# Altium integrated library Manu3.IntLib: 36 symbols
Pins are listed as number, name and electrical type; pins without a type are passive.

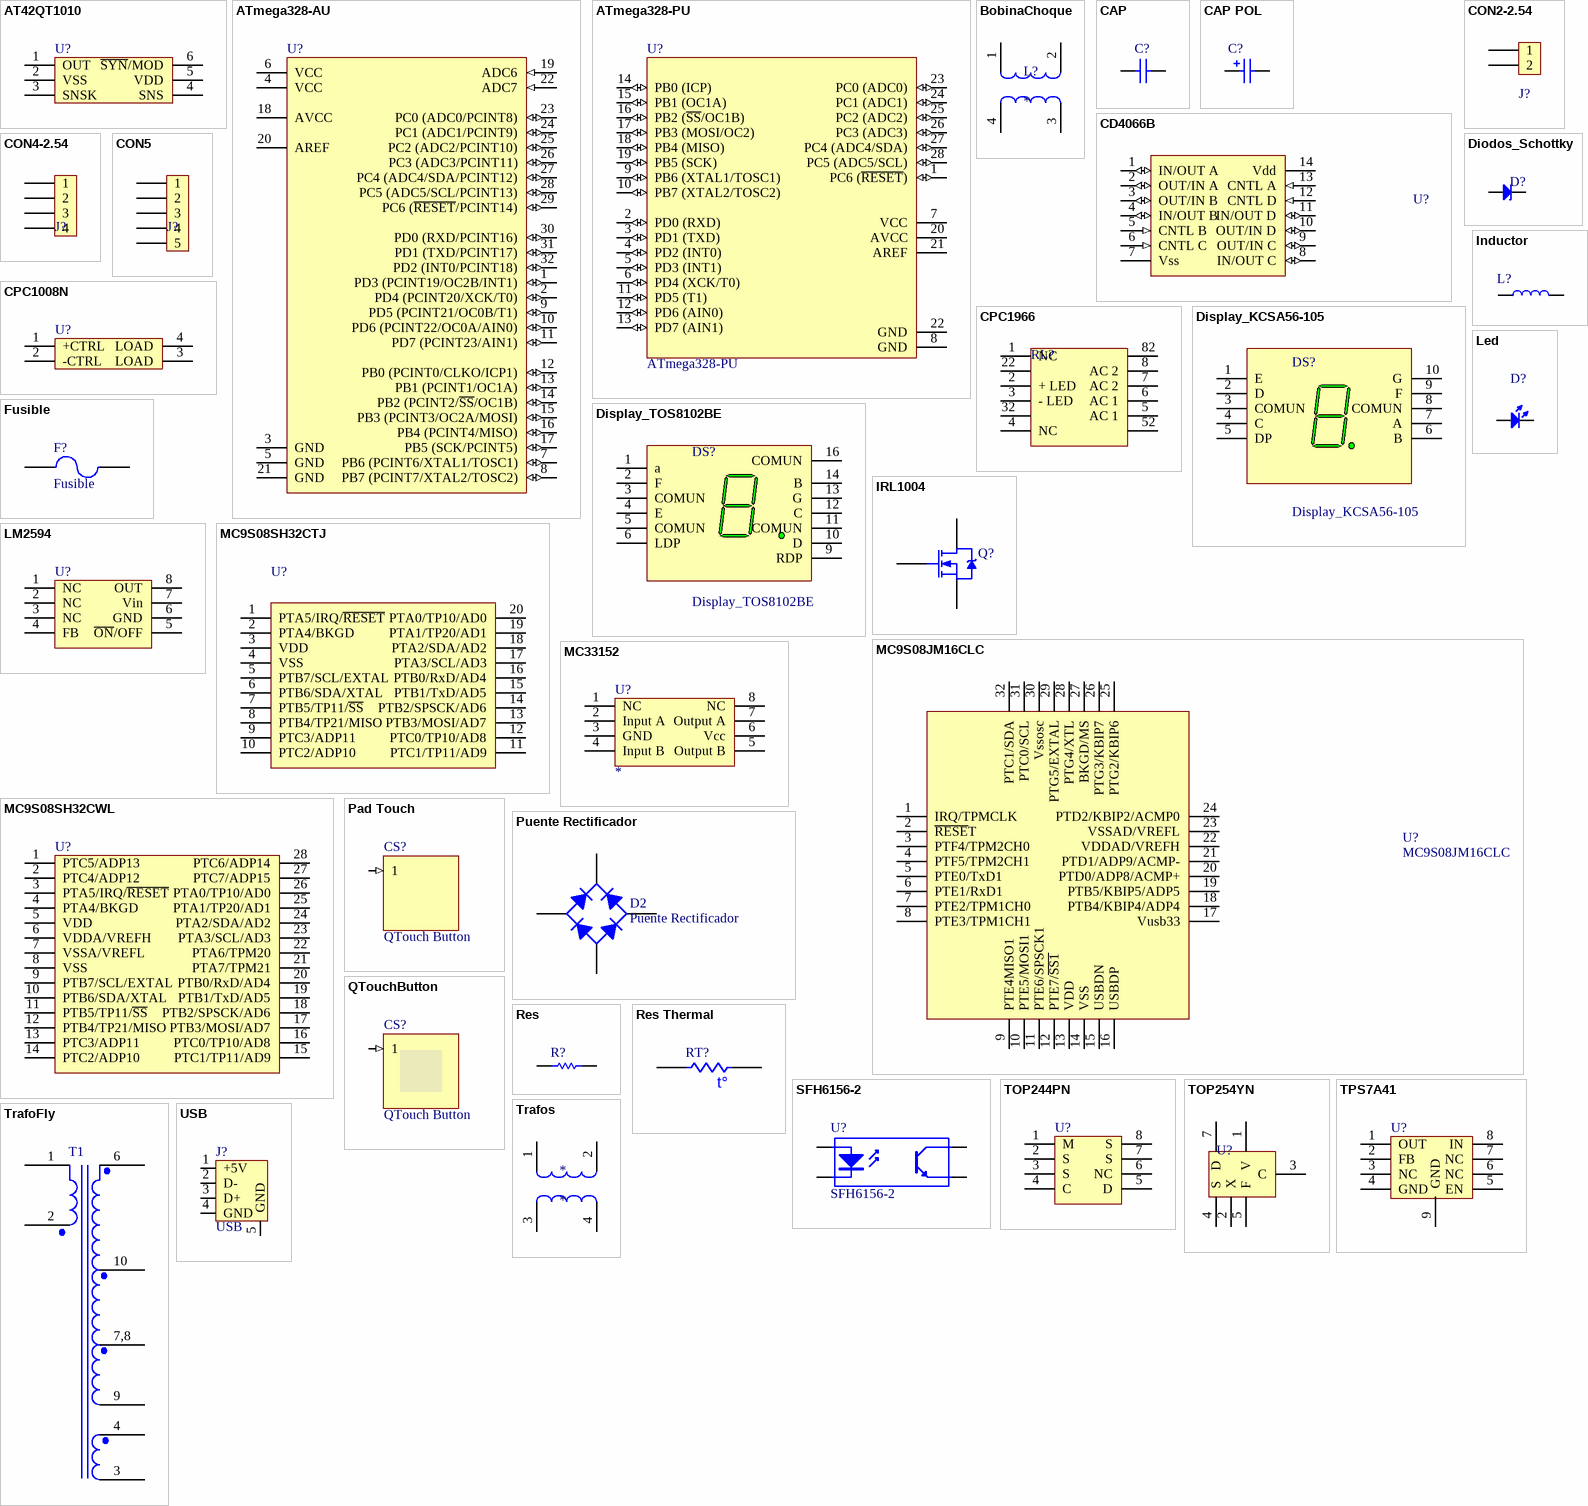
[diagram p0: symbols AT42QT1010 to USB]

## AT42QT1010
designator U?, comment AT42QT1010-TSHR  (value not drawn)
Single-key QTouch® Touch Sensor IC
footprint SOT23-6 (SOT23, 6-Leads)
pins: 1 OUT, 2 VSS, 3 SNSK, 4 SNS, 5 VDD, 6 ~{SYN}/MOD (power)
1 alternate drawing of the same symbol

## ATmega328-AU
designator U?
8-bit AVR Microcontroller, 32KB Flash, 1KB EEPROM, 2KB SRAM, 32-pin TQFP, Industrial Grade (-40°C to 85°C); Published: 1-Apr-2010; DatasheetVersion: revA, Jan-2010; PackageVersion: revB, Oct-2001; PackageReference: 32A; Publisher: Altium Limited; PackageDescription: 32-Lead, 7x7x1.0 mm Body, 0.8mm Lead Pitch, Thin Profile Plastic Quad Flat Package (TQFP); Supplier 1: Digi-Key; Supplier Part Number 1: ATMEGA328-AU-ND; Supplier 2: Mouser; Supplier Part Number 2: 556-ATMEGA328-AU; Code_JEDEC: MS-026-ABA; ComponentLink1Description: Manufacturer Link; ComponentLink1URL: http://www.atmel.com/products/avr/default.asp?; ComponentLink2Description: ATmega48A/48PA/88A/88PA/168A/168PA/328/328P Datasheet; ComponentLink2URL: http://www.atmel.com/dyn/resources/prod_documents/8271.pdf; ComponentLink3Description: ATmega48A/48PA/88A/88PA/168A/168PA/328/328P Summary; ComponentLink3URL: http://www.atmel.com/dyn/resources/prod_documents/8271S.pdf; ComponentLink4Description: Atmel.com Home; ComponentLink4URL: http://www.atmel.com
footprint TQFP32 (Thin QFP, 32-Leads, Body 7x7mm, Pitch 0.8mm, IPC Medium Density)
pins: 1 PD3 (PCINT19/OC2B/INT1) (io), 2 PD4 (PCINT20/XCK/T0) (io), 3 GND (power), 4 VCC (power), 5 GND (power), 6 VCC (power), 7 PB6 (PCINT6/XTAL1/TOSC1) (io), 8 PB7 (PCINT7/XTAL2/TOSC2) (io), 9 PD5 (PCINT21/OC0B/T1) (io), 10 PD6 (PCINT22/OC0A/AIN0) (io), 11 PD7 (PCINT23/AIN1) (io), 12 PB0 (PCINT0/CLKO/ICP1) (io), 13 PB1 (PCINT1/OC1A) (io), 14 PB2 (PCINT2/~{SS}/OC1B) (io), 15 PB3 (PCINT3/OC2A/MOSI) (io), 16 PB4 (PCINT4/MISO) (io), 17 PB5 (SCK/PCINT5) (io), 18 AVCC (power), 19 ADC6 (in), 20 AREF, 21 GND (power), 22 ADC7 (in), 23 PC0 (ADC0/PCINT8) (io), 24 PC1 (ADC1/PCINT9) (io), 25 PC2 (ADC2/PCINT10) (io), 26 PC3 (ADC3/PCINT11) (io), 27 PC4 (ADC4/SDA/PCINT12) (io), 28 PC5 (ADC5/SCL/PCINT13) (io), 29 PC6 (~{RESET}/PCINT14) (io), 30 PD0 (RXD/PCINT16) (io), 31 PD1 (TXD/PCINT17) (io), 32 PD2 (INT0/PCINT18) (io)

## ATmega328-PU
designator U?
8-Bit AVR Microcontroller with 8K Bytes of In-System Programmable Flash Memory
footprint DIP28 (DIP; 28 Leads; Row Spacing 7.62 mm; Pitch 2.54 mm)
pins: 1 PC6 (~{RESET}) (io), 2 PD0 (RXD) (io), 3 PD1 (TXD) (io), 4 PD2 (INT0) (io), 5 PD3 (INT1) (io), 6 PD4 (XCK/T0) (io), 7 VCC (power), 8 GND (power), 9 PB6 (XTAL1/TOSC1) (io), 10 PB7 (XTAL2/TOSC2) (io), 11 PD5 (T1) (io), 12 PD6 (AIN0) (io), 13 PD7 (AIN1) (io), 14 PB0 (ICP) (io), 15 PB1 (OC1A) (io), 16 PB2 (~{SS}/OC1B) (io), 17 PB3 (MOSI/OC2) (io), 18 PB4 (MISO) (io), 19 PB5 (SCK) (io), 20 AVCC (power), 21 AREF, 22 GND (power), 23 PC0 (ADC0) (io), 24 PC1 (ADC1) (io), 25 PC2 (ADC2) (io), 26 PC3 (ADC3) (io), 27 PC4 (ADC4/SDA) (io), 28 PC5 (ADC5/SCL) (io)

## BobinaChoque
designator L?
Transformadores de 4 patillas
footprint PLA10_Series (AC Line Filters Common Mode Choke Coil)
pins: 1, 2, 3, 4

## CAP
designator C?  (value not drawn)
Capacitor
footprint 1206 (Tamaño 1206)
footprint 0805 (Tamaño 0805 para pasar por el horno)
footprint 0603 (Tamaño 0603 para pasar por el horno)
footprint RADIAL-10P_5mm (2 Leads)
footprint AXIAL-P_5mm (Paso 5mm)
footprint AXIAL-P_5.08mm (Paso 5.08mm)
footprint AXIAL-P_2.54mm (Paso 2.54mm)
footprint AXIAL-P_10mm (Paso 10mm)
footprint AXIAL-P_10mm (Paso 10mm)
footprint P_15mm (Condensador Poliester; 2 Leads)
footprint Cap0603 (Tamaño 0603 para pasar por el horno)
footprint CAP 0805 (Tamaño 0805)
pins: 1, 2

## CAP POL
designator C?  (value not drawn)
Polarized Capacitor (Radial)
footprint Cap SMD 6.3 (Condensador smd D=6.3)
footprint CAP10mm (10mmdiametro)
pins: 1, 2
1 alternate drawing of the same symbol

## CD4066B
designator U?  (value not drawn)
Quad Analog Switch
footprint TSSOP14 (SOIC, 14-Leads, Body 9x7.5mm, Pitch 1.27mm, IPC Medium Density)
pins: 1 IN/OUT A (io), 2 OUT/IN A (io), 3 OUT/IN B (io), 4 IN/OUT B (io), 5 CNTL B (in), 6 CNTL C (in), 7 Vss (power), 8 IN/OUT C (io), 9 OUT/IN C (io), 10 OUT/IN D (io), 11 IN/OUT D (io), 12 CNTL D (in), 13 CNTL A (in), 14 Vdd (power)
1 alternate drawing of the same symbol

## CON2-2.54
designator J?  (value not drawn)
Conector 2 vias con aleta
footprint CON2-2.54 Receptaculo (Conector Cable placa p= 2.54mm C.F: (2vias))
footprint CON2-2.75 (Conector Placa)
pins: 1, 2

## CON4-2.54
designator J?  (value not drawn)
Conector 2 vias con aleta
footprint CON4-2.54 Receptaculo (Conector Cable placa p= 2.54mm C.F: (4vias))
pins: 1, 2, 3, 4

## CON5
designator J?  (value not drawn)
Conector 5 vias tornillo
footprint CON5-3.81 (Conector Tornillo p= 3.81mm C.F: (5vias))
footprint CON5-2.54 (Conector Tornillo p= 2.54mm C.F: (5vias))
pins: 1, 2, 3, 4, 5

## CPC1008N
designator U?  (value not drawn)
Single-Pole, Normally Open  4-Pin SOP OptoMOS® Relay
footprint 4-Pin SOP
pins: 1 +CTRL, 2 -CTRL, 3 LOAD, 4 LOAD
1 alternate drawing of the same symbol

## CPC1966
designator RL?  (value not drawn)
Rele estado solido AC Power Switch
footprint SOIC8 POWER
footprint SOIC8 POWER+SIP4 (CPC1966)
pins: 1 NC, 2 + LED, 3 - LED, 4 NC, 5 AC 1, 6 AC 1, 7 AC 2, 8 AC 2 (power), 22 + LED, 32 - LED, 52 AC 1, 82 AC 2
1 alternate drawing of the same symbol

## Diodos_Schottky
designator D?  (value not drawn)
Diodos schottky
footprint SOD123
footprint TO-220AC (TO, Thru-Hole, Vertical, Heatsink Mounted;2 In-Line Leads; Pitch 2.54 mm)
footprint DOP3I
pins: 1 A, 2 K

## Display_KCSA56-105
designator DS?
7.62 mm Black Surface Green 7-Segment Display: CA, RH DP; MinimumIntensity: 860 ucd; Note: IF = 10 mA; Note: Pins 1 and 6 are redundant Anodes.; Published: 8-Jun-2000; LatestRevisionDate: 17-Dec-2003; LatestRevisionNote: Schematic revised, PCB Footprint replaced.; DatasheetDocument: 19-Feb-2002; PackageDocument: 19-Feb-2002; PackageReference: LEDDIP-10; Publisher: Altium Limited; Colour: Green; ComponentLink1Description: Manufacturer Link; ComponentLink1URL: http://www.agilent.com/
footprint Display_KCSA56-105 (Pinout Display KCSA56-105)
pins: 1 E "Cathode", 2 D "Cathode", 3 COMUN "Cathode", 4 C "Cathode", 5 DP "Cathode", 6 B "Anode", 7 A "Anode", 8 COMUN "Cathode", 9 F "Cathode", 10 G "Cathode"

## Display_TOS8102BE
designator DS?
7.62 mm Black Surface Green 7-Segment Display: CA, RH DP; MinimumIntensity: 860 ucd; Note: IF = 10 mA; Note: Pins 1 and 6 are redundant Anodes.; Published: 8-Jun-2000; LatestRevisionDate: 17-Dec-2003; LatestRevisionNote: Schematic revised, PCB Footprint replaced.; DatasheetDocument: 19-Feb-2002; PackageDocument: 19-Feb-2002; PackageReference: LEDDIP-10; Publisher: Altium Limited; Colour: Green; ComponentLink1Description: Manufacturer Link; ComponentLink1URL: http://www.agilent.com/
pins: 1 a "Cathode", 2 F "Cathode", 3 COMUN "Cathode", 4 E "Cathode", 5 COMUN "Cathode", 6 LDP "Cathode", 9 RDP "Anode", 10 D "Anode", 11 COMUN "Cathode", 12 C "Cathode", 13 G "Cathode", 14 B "Cathode", 16 COMUN "Cathode"

## Fusible
designator F?
footprint PTC Reseteable 11.5x20.9x3.8 (PTC Reseteable CF:2213624)
footprint PTC Reseteable 8.3x2x3.8 p_5.8 (PTC Reseteable LVR005NK)
pins: 1, 2

## Inductor
designator L?  (value not drawn)
Inductores varios
footprint SDR0503 Series (Bobina 5mm x 4.8mm x 3mm)
footprint Ind_R_8.5mm (P_5mm)
footprint RES0603 (Tamaño 0603 para pasar por el horno)
pins: 1, 2

## IRL1004
designator Q?
HEXFET Power MOSFET; Note: Pin 2 is electrically connected to Tab (Drain).; Published: 17-Sep-2003; DatasheetVersion: 29-Nov-1999; PackageVersion: Feb-1997; PackageReference: TO-220AB; Publisher: Altium Limited; PackageDescription: TO, Thru-Hole, Vertical, Heatsink Mounted; 3 In-Line Leads; Pitch 2.54 mm; ComponentLink1Description: Manufacturer Link; ComponentLink1URL: http://www.irf.com/; ComponentLink2Description: Datasheet; ComponentLink2URL: http://www.irf.com/product-info/datasheets/data/irl1004.pdf
footprint TO-220AB (TO, Thru-Hole, Vertical, Heatsink Mounted; 3 In-Line Leads; Pitch 2.54 mm)
simulation model IRL1004 (SUBCKT)
footprint TO-220AB Tumbado (TO, Thru-Hole, Vertical, Heatsink Mounted; 3 In-Line Leads; Pitch 2.54 mm)
pins: 1 G, 2 D, 3 S

## Led
designator D?  (value not drawn)
Tipico Led
footprint LED3MM (Led Convencional 3mm)
pins: 1 A, 2 K

## LM2594
designator U?, comment LM2594DADJR2G  (value not drawn)
0.5 A, Step-Down Switching  Regulator
footprint SOIC8 NB (SOIC, 8-Leads, Body 4.9x3.9mm, Pitch 1.27mm, IPC Medium Density)
pins: 1 NC, 2 NC, 3 NC, 4 FB (power), 5 ~{ON}/OFF, 6 GND, 7 Vin, 8 OUT (power)
1 alternate drawing of the same symbol

## MC9S08JM16CLC
designator U?
8-Bit Microcontroller
footprint LQFP-32 (Thin QFP, 32-Leads, Body 7x7mm, Pitch 0.8mm, IPC Medium Density)
pins: 1 IRQ/TPMCLK, 2 ~{RESE}T, 3 PTF4/TPM2CH0, 4 PTF5/TPM2CH1, 5 PTE0/TxD1, 6 PTE1/RxD1, 7 PTE2/TPM1CH0, 8 PTE3/TPM1CH1, 9 PTE4MISO1, 10 PTE5/MOSI1, 11 PTE6/SPSCK1, 12 PTE7/~{SS1}, 13 VDD, 14 VSS, 15 USBDN, 16 USBDP, 17 Vusb33, 18 PTB4/KBIP4/ADP4, 19 PTB5/KBIP5/ADP5, 20 PTD0/ADP8/ACMP+, 21 PTD1/ADP9/ACMP-, 22 VDDAD/VREFH, 23 VSSAD/VREFL, 24 PTD2/KBIP2/ACMP0, 25 PTG2/KBIP6, 26 PTG3/KBIP7, 27 BKGD/MS, 28 PTG4/XTL, 29 PTG5/EXTAL, 30 Vssosc, 31 PTC0/SCL, 32 PTC1/SDA

## MC9S08SH32CTJ
designator U?  (value not drawn)
Microprocesador
footprint SOIC20 (SOIC, 20-Leads, Body 12.8x7.5mm, Pitch 1.27mm, IPC Low Density)
pins: 1 PTA5/IRQ/~{RESET} (power), 2 PTA4/BKGD (power), 3 VDD, 4 VSS (power), 5 PTB7/SCL/EXTAL, 6 PTB6/SDA/XTAL, 7 PTB5/TP11/~{SS}, 8 PTB4/TP21/MISO (power), 9 PTC3/ADP11, 10 PTC2/ADP10, 11 PTC1/TP11/AD9, 12 PTC0/TP10/AD8, 13 PTB3/MOSI/AD7, 14 PTB2/SPSCK/AD6, 15 PTB1/TxD/AD5, 16 PTB0/RxD/AD4, 17 PTA3/SCL/AD3, 18 PTA2/SDA/AD2, 19 PTA1/TP20/AD1, 20 PTA0/TP10/AD0
1 alternate drawing of the same symbol

## MC9S08SH32CWL
designator U?  (value not drawn)
Microprocesador
footprint SOIC28 (SOIC, 28-Leads, Body 17.9x7.5mm, Pitch 1.27mm, IPC High Density)
pins: 1 PTC5/ADP13, 2 PTC4/ADP12, 3 PTA5/IRQ/~{RESET} (power), 4 PTA4/BKGD (power), 5 VDD, 6 VDDA/VREFH, 7 VSSA/VREFL, 8 VSS (power), 9 PTB7/SCL/EXTAL, 10 PTB6/SDA/XTAL, 11 PTB5/TP11/~{SS}, 12 PTB4/TP21/MISO (power), 13 PTC3/ADP11, 14 PTC2/ADP10, 15 PTC1/TP11/AD9, 16 PTC0/TP10/AD8, 17 PTB3/MOSI/AD7, 18 PTB2/SPSCK/AD6, 19 PTB1/TxD/AD5, 20 PTB0/RxD/AD4, 21 PTA7/TPM21, 22 PTA6/TPM20, 23 PTA3/SCL/AD3, 24 PTA2/SDA/AD2, 25 PTA1/TP20/AD1, 26 PTA0/TP10/AD0, 27 PTC7/ADP15, 28 PTC6/ADP14
1 alternate drawing of the same symbol

## MC33152
designator U?
High Speed Dual  MOSFET Drivers
footprint SOIC8 (SOIC, 8-Leads, Body 4.9x3.9mm, Pitch 1.27mm, IPC Medium Density)
pins: 1 NC, 2 Input A, 3 GND, 4 Input B (power), 5 Output B, 6 Vcc, 7 Output A, 8 NC (power)
1 alternate drawing of the same symbol

## Pad Touch
designator CS?, comment QTouch Button  (no BOM)
ConfiguratorName: ATMEL_TOUCH; ConfigurationParameters: {}__sensorid[1]{}width[15]{}height[15]{}
footprint Pad_Touch (Pad Touch D=33mm 34x34 mm)
pins: 1 (in)

## Puente Rectificador
designator D2
Full Wave Diode Bridge
footprint Puente (Puente rectificador  1,5A, 800V)
footprint DFSerie (Puente Rectificador)
pins: 1 Positivo, 2 Negativo, 3 ALterna, 4 Alterna

## QTouchButton
designator CS?, comment QTouch Button  (no BOM)
ConfiguratorName: ATMEL_TOUCH; ConfigurationParameters: {}__sensorid[1]{}width[15]{}height[15]{}
pins: 1 (in)

## Res
designator R?  (value not drawn)
Resistor
footprint 1206 (Tamaño 1206)
footprint 0805 (Tamaño 0805 para pasar por el horno)
footprint AXIAL-0.6 (Resistor; 2 Leads 1/2W 600mil)
footprint AXIAL-0.5 (Resistor; 2 Leads 1/4W 500mil)
footprint 1210 (Tamaño 1210)
footprint SM-3 (Resistencia Serie SM 3W)
footprint Res1210 (Tamaño 1210)
footprint Res1206 (Tamaño 1206)
footprint Res0805 (Tamaño 0805)
footprint RES0603 (Tamaño 0603 para pasar por el horno)
footprint Res2512 (Tamaño 2512)
pins: 1, 2

## Res Thermal
designator RT?
Thermistor; Published: 24-Mar-1999; LatestRevisionDate: 04-Mar-2005; LatestRevisionNote: PCB Footprint replaced.; PackageReference: 6-0805; Publisher: Altium Limited
footprint Termistor 9.5x6 p_5 (NTC Termistor)
pins: 1, 2
text: t°

## SFH6156-2
designator U?
4-Pin Phototransistor Optocoupler
footprint SMD4 (SOIC, 4-Leads, Body 4.9x3.9mm, Pitch 1.27mm, IPC Medium Density)
pins: 1 A "Anode", 2 K "Cathode", 3 E "Emitter", 4 C "Collector"

## TOP244PN
designator U?  (value not drawn)
TOPSwitch-GX Family  Extended Power, Design Flexible,  EcoSmart, Integrated Off-line Switcher
footprint DIP-8B (DIP; 8 Leads; Row Spacing 7.62 mm; Pitch 2.54 mm)
pins: 1 M, 2 S, 3 S, 4 C (power), 5 D, 6 NC, 7 S, 8 S (power)
1 alternate drawing of the same symbol

## TOP254YN
designator U?  (value not drawn)
TOPSwitch-GX Family  Extended Power, Design Flexible,  EcoSmart, Integrated Off-line Switcher
footprint TO220-7C (TO, Thru-Hole, Vertical, Heatsink Mounted; 3 In-Line Leads; Pitch 2.54 mm)
pins: 1 V, 2 X, 3 C, 4 S (power), 5 F, 7 D
1 alternate drawing of the same symbol

## TPS7A41
designator U?, comment TPS7A4101DGNT  (value not drawn)
50-V Input Voltage, 50-mA, Very High Voltage  LINEAR REGULATOR
footprint MSOP8 PowerPAD (DGN Package 3mmx5mm)
pins: 1 OUT, 2 FB, 3 NC, 4 GND (power), 5 EN, 6 NC, 7 NC, 8 IN (power), 9 GND (power)
1 alternate drawing of the same symbol

## TrafoFly
designator T1, comment Trafo Flyback Unitronic  (value not drawn)
Three-winding Transformer (Ideal)
footprint E20_10_6 (EF20) H (Nucleos Transformador)
footprint E20_10_6 (EF20) V (Nucleos Transformador)
footprint E20_10_6 (EF20) HyV (Nucleos Transformador)
pins: 1 Primario, 2 Primario, 3 Bias, 4 Bias, 6 24V, 7,8 5V, 9 0V, 10 10V

## Trafos
designator *
Transformadores de 4 patillas
footprint SU9V Series (Suppression Chokes)
pins: 1, 2, 3, 4

## USB
designator J?
footprint USB-A Hembra GOLF
footprint USB-A Hembra GOLF2
pins: 1 +5V, 2 D-, 3 D+, 4 GND, 5 GND